# Altium schematic symbol library PWM.SchLib: 2 symbols
Pins are listed as number, name and electrical type; pins without a type are passive.

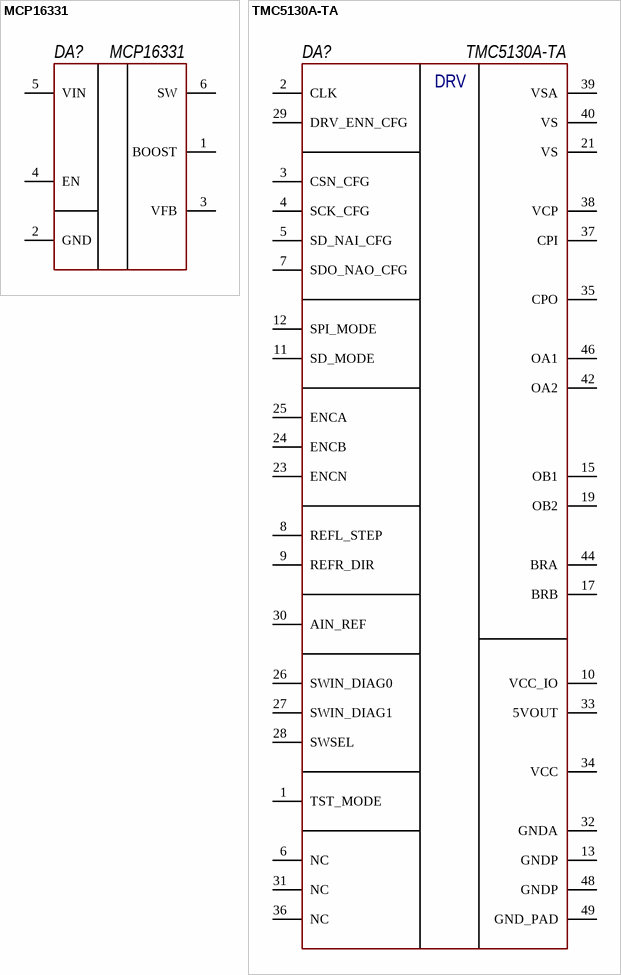
[diagram p0: symbols MCP16331 to TMC5130A-TA]

## MCP16331
designator DA?
footprint SOT23-6
pins: 1 BOOST, 2 GND, 3 VFB, 4 EN, 5 VIN, 6 SW

## TMC5130A-TA
designator DA?
footprint TQFP-48 (TSQFP, 48-Leads, Body 7,00x7,00mm, Pitch 0,50mm, Thermal Pad 5,00x5,00mm, IPC Medium Density)
pins: 1 TST_MODE, 2 CLK, 3 CSN_CFG, 4 SCK_CFG, 5 SD_NAI_CFG, 6 NC, 7 SDO_NAO_CFG, 8 REFL_STEP, 9 REFR_DIR, 10 VCC_IO, 11 SD_MODE, 12 SPI_MODE, 13 GNDP, 14 NC hidden, 15 OB1, 16 NC hidden, 17 BRB, 18 NC hidden, 19 OB2, 20 NC hidden, 21 VS, 22 NC hidden, 23 ENCN, 24 ENCB, 25 ENCA, 26 SWIN_DIAG0, 27 SWIN_DIAG1, 28 SWSEL, 29 DRV_ENN_CFG, 30 AIN_REF, 31 NC, 32 GNDA, 33 5VOUT, 34 VCC, 35 CPO, 36 NC, 37 CPI, 38 VCP, 39 VSA, 40 VS, 41 NC hidden, 42 OA2, 43 NC hidden, 44 BRA, 45 NC hidden, 46 OA1, 47 NC hidden, 48 GNDP, 49 GND_PAD
text: DRV